# Altium footprint library PCB - CONNECTOR - SAMTEC - SAMTEC ESQ-113-13-X-D.PCBLIB: 1 footprints
Each footprint in its own frame and in the unit in brackets; x right, y up, seen from the top. Pads: shape width x height; smd on the part's side, far side on the other; paste and mask are expansions set on the pad; w line width, h text height; cw(c..) or ccw(c..) is an arc to the next point about the centre after c.
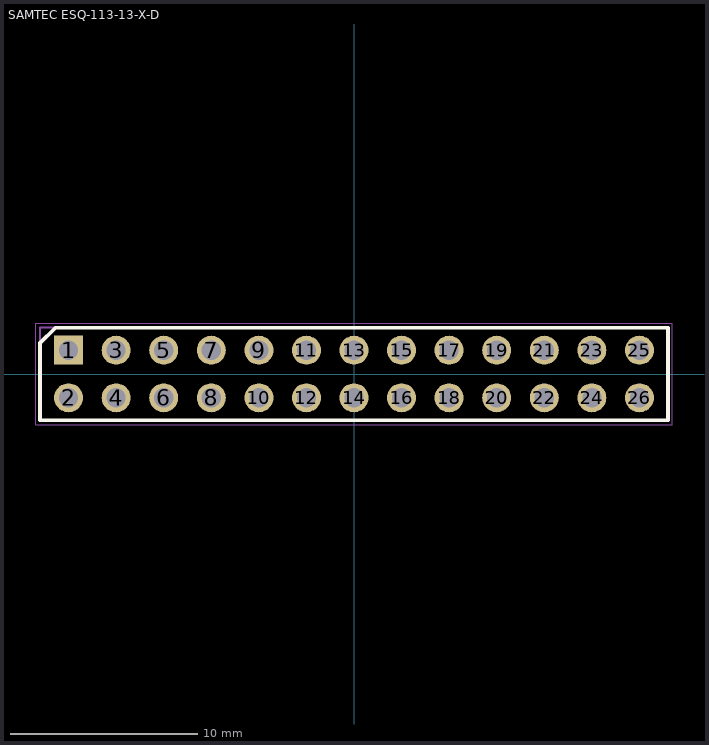
[diagram p0: the footprint, top view; thin cyan lines are the x and y axes]

## SAMTEC ESQ-113-13-X-D [mm] "Elevated Socket, 2x13 Pins, Vertical, 2.54mm Pitch, Female"
height 11.303
pads (26):
  rect 1.55x1.55 hole 1.02: 1(-15.24,1.27)
  round 1.55 hole 1.02: 2(-15.24,-1.27) 3(-12.7,1.27) 4(-12.7,-1.27) 5(-10.16,1.27) 6(-10.16,-1.27) 7(-7.62,1.27) 8(-7.62,-1.27) 9(-5.08,1.27) 10(-5.08,-1.27) 11(-2.54,1.27) 12(-2.54,-1.27) 13(0,1.27) 14(0,-1.27) 15(2.54,1.27) 16(2.54,-1.27) 17(5.08,1.27) 18(5.08,-1.27) 19(7.62,1.27) 20(7.62,-1.27) 21(10.16,1.27) 22(10.16,-1.27) 23(12.7,1.27) 24(12.7,-1.27) 25(15.24,1.27) 26(15.24,-1.27)
Top Overlay:
  lines w0.2: -16.765,-2.475 -16.765,1.65 -15.94,2.475 16.765,2.475 16.765,-2.475 -16.765,-2.475
Mechanical 13:
  lines w0.1: -16.765,-2.475 -16.765,2.475 16.765,2.475 16.765,-2.475 -16.765,-2.475
Mechanical 15:
  lines w0.05: -16.99,-2.7 -16.99,2.7 16.99,2.7 16.99,-2.7 -16.99,-2.7
3D body "ESQ-113-13-G-D.stp": height 11.11, standoff -7.31, extent -16.764,-2.54 16.764,2.54